# Altium integrated library STMicro-Comparators.IntLib: 2 symbols
Pins are listed as number, name and electrical type; pins without a type are passive.

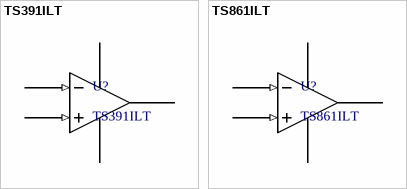
[diagram p0: symbols TS391ILT to TS861ILT]

## TS391ILT
designator U?
STMicroelectronics, Comparator, Low-power single voltage comparator
footprint SOT95P280X145-5N (SOT23, 5-Leads, Body 2.90x2.80mm, Pitch 0.95mm, IPC Medium Density); pin to pad +>4 ->3 VCC+>5 VCC->2 Vout>1
pins: + (in), - (in), VCC+ (power), VCC- (power), Vout (oc)

## TS861ILT
designator U?
STMicroelectronics, Comparator, Low-power single voltage comparator
footprint SOT95P280X145-5N (SOT23, 5-Leads, Body 2.90x2.80mm, Pitch 0.95mm, IPC Medium Density); pin to pad +>4 ->3 VCC+>5 VCC->2 Vout>1
pins: + (in), - (in), VCC+ (power), VCC- (power), Vout (oc)